# EAGLE library part ADXRS450 (library OSSI)
ADXRS450 +-300 deg / sec angular rate sensing gyro by Analog Devices
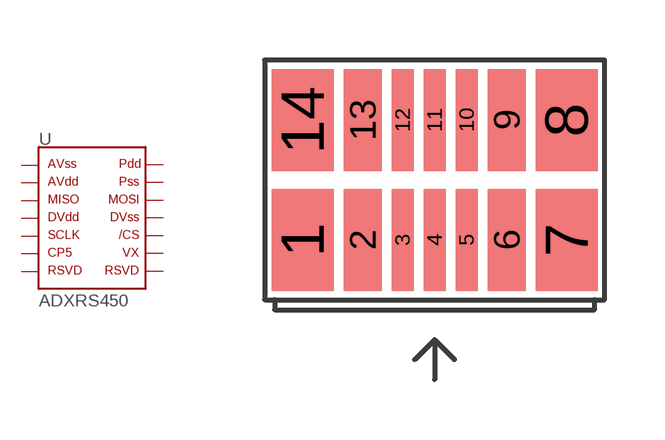
[diagram p9: symbol with the pads of LCC_V; footprint LCC_V]

Designator prefix U

## ADXRS450  [LCC_V]
1  P$1  pwr
2  P$2  pwr
3  P$3
4  P$4  pwr
5  P$5
6  P$6
7  P$7  pwr
8  P$8  pwr
9  P$9
10  P$10  in
11  P$11  pwr
12  P$12
13  P$13  pwr
14  P$14  pwr

## Footprint LCC_V (pad centres in mm)
smd 1.55 x 2.55: 1 -3.3,-1.5; 7 3.3,-1.5; 8 3.3,1.5; 14 -3.3,1.5
smd 0.95 x 2.55: 2 -1.8,-1.5; 6 1.8,-1.5; 9 1.8,1.5; 13 -1.8,1.5
smd 0.55 x 2.55: 3 -0.8,-1.5; 4 0,-1.5; 5 0.8,-1.5; 10 0.8,1.5; 11 0,1.5; 12 -0.8,1.5